# Altium schematic symbol library Transformer_Sch.SchLib: 1 symbol
Pins are listed as number, name and electrical type; pins without a type are passive.

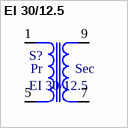
[diagram p0: symbol EI 30/12.5]

## EI 30/12.5
designator S?
EL-KOM 1.5VA Transformatör; Primer Voltage: 230VAC; Sec. Voltage: 7.5VAC; Power: 1.5VA
footprint EI 30/12.5 (EL-KOM Transformer)
pins: 1, 5, 7, 9
text: Pr; Sec